# Altium schematic symbol library Buffer_Fairchild_74LCX126.SchLib: 1 symbol
Pins are listed as number, name and electrical type; pins without a type are passive.

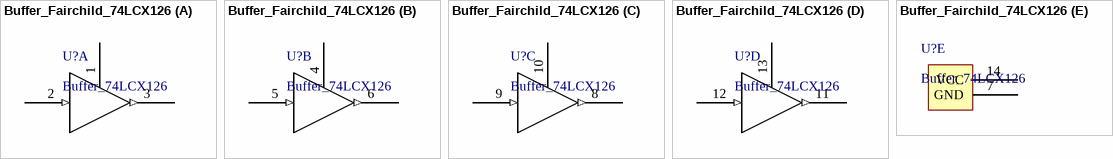
[diagram p0: symbol Buffer_Fairchild_74LCX126]

## Buffer_Fairchild_74LCX126
designator U?, comment Buffer_74LCX126
LV Quad Buffer, 5V
part A pins: 1, 2 (in), 3 (out)
part B pins: 4, 5 (in), 6 (out)
part C pins: 8 (out), 9 (in), 10
part D pins: 11 (out), 12 (in), 13
part E pins: 7 GND, 14 VCC